# EAGLE library part DVR8833 (library personales (1))
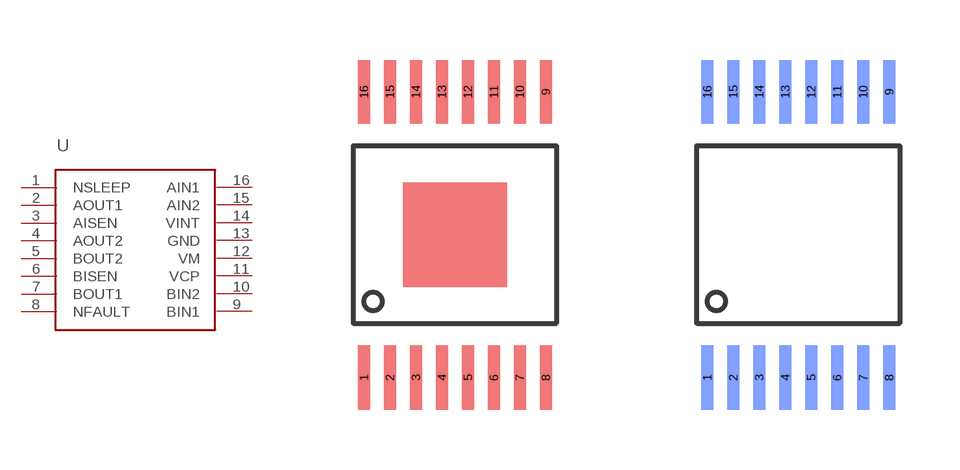
[diagram p0: symbol with the pads of PWP16; footprints PWP16, PWPBOTTOM]

Designator prefix -

## DVR8833SUPERFICIAL  [PWP16]
1  NSLEEP
2  AOUT1
3  AISEN
4  AOUT2
5  BOUT2
6  BISEN
7  BOUT1
8  NFAULT
9  BIN1
10  BIN2
11  VCP
12  VM
13  GND
14  VINT
15  AIN2
16  AIN1

## DVR8833  [PWPBOTTOM]
Pads as for PWP16

## Footprint PWP16 (pad centres in mm)
smd 0.305 x 1.6: 1 -1.95,-3.9; 2 -1.3,-3.9; 3 -0.65,-3.9; 4 0,-3.9; 5 0.65,-3.9; 6 1.3,-3.9; 7 1.95,-3.9; 8 2.6,-3.9; 9 2.6,3.25; 10 1.95,3.25; 11 1.3,3.25; 12 0.65,3.25; 13 0,3.25; 14 -0.65,3.25; 15 -1.3,3.25; 16 -1.95,3.25

## Footprint PWPBOTTOM (pad centres in mm)
smd 0.305 x 1.6 bottom: 1 -1.95,-2.63; 2 -1.3,-2.63; 3 -0.65,-2.63; 4 0,-2.63; 5 0.65,-2.63; 6 1.3,-2.63; 7 1.95,-2.63; 8 2.6,-2.63; 9 2.6,4.52; 10 1.95,4.52; 11 1.3,4.52; 12 0.65,4.52; 13 0,4.52; 14 -0.65,4.52; 15 -1.3,4.52; 16 -1.95,4.52